# Altium schematic symbol library SchLib1.SchLib: 7 symbols
Pins are listed as number, name and electrical type; pins without a type are passive.

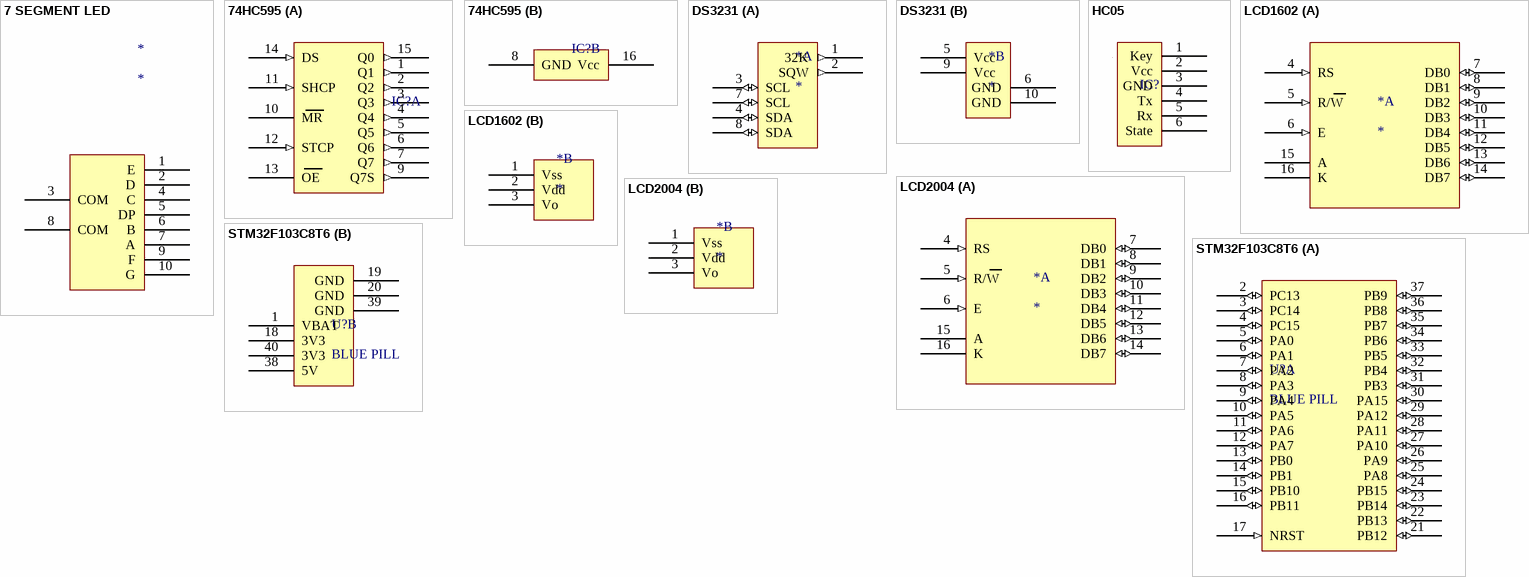
[diagram p0: symbols 7 SEGMENT LED to STM32F103C8T6]

## 7 SEGMENT LED
designator *
common anode
footprint 7 SEGMENT LED (KW1-S201AVA/KW1-S201CVA)
pins: 1 E, 2 D, 3 COM, 4 C, 5 DP, 6 B, 7 A, 8 COM, 9 F, 10 G

## 74HC595
designator IC?  (value not drawn)
Parameter 1: *
footprint 74HC595
part A pins: 1 Q1 (out), 2 Q2 (out), 3 Q3 (out), 4 Q4 (out), 5 Q5 (out), 6 Q6 (out), 7 Q7 (out), 9 Q7S (out), 10 MR, 11 SHCP (in), 12 STCP (in), 13 OE, 14 DS (in), 15 Q0 (out)
part B pins: 8 GND (power), 16 Vcc (power)

## DS3231
designator *
footprint MODULE DS3231( Part B )
footprint Module DS3231( Part A )
part A pins: 1 32K (out), 2 SQW (out), 3 SCL (io), 4 SDA (io), 7 SCL (io), 8 SDA (io)
part B pins: 5 Vcc (power), 6 GND (power), 9 Vcc (power), 10 GND (power)

## HC05
designator IC?  (value not drawn)
footprint Module HC05
pins: 1 Key, 2 Vcc (power), 3 GND (power), 4 Tx, 5 Rx, 6 State

## LCD1602
designator *
footprint LCD1602
part A pins: 4 RS (in), 5 R/W (in), 6 E (in), 7 DB0 (io), 8 DB1 (io), 9 DB2 (io), 10 DB3 (io), 11 DB4 (io), 12 DB5 (io), 13 DB6 (io), 14 DB7 (io), 15 A, 16 K
part B pins: 1 Vss (power), 2 Vdd (power), 3 Vo (power)

## LCD2004
designator *
footprint LCD2004
part A pins: 4 RS (in), 5 R/W (in), 6 E (in), 7 DB0 (io), 8 DB1 (io), 9 DB2 (io), 10 DB3 (io), 11 DB4 (io), 12 DB5 (io), 13 DB6 (io), 14 DB7 (io), 15 A, 16 K
part B pins: 1 Vss (power), 2 Vdd (power), 3 Vo (power)

## STM32F103C8T6
designator U?, comment BLUE PILL
STM32F103C8T6, mbed-Enabled Development Bluepill STM32F1 ARM® Cortex®-M3 MCU 32-Bit Embedded Evaluation Board
footprint STM32F103C8T6 (BLUE PILL)
part A pins: 2 PC13 (io), 3 PC14 (io), 4 PC15 (io), 5 PA0 (io), 6 PA1 (io), 7 PA2 (io), 8 PA3 (io), 9 PA4 (io), 10 PA5 (io), 11 PA6 (io), 12 PA7 (io), 13 PB0 (io), 14 PB1 (io), 15 PB10 (io), 16 PB11 (io), 17 NRST (in), 21 PB12 (io), 22 PB13 (io), 23 PB14 (io), 24 PB15 (io), 25 PA8 (io), 26 PA9 (io), 27 PA10 (io), 28 PA11 (io), 29 PA12 (io), 30 PA15 (io), 31 PB3 (io), 32 PB4 (io), 33 PB5 (io), 34 PB6 (io), 35 PB7 (io), 36 PB8 (io), 37 PB9 (io)
part B pins: 1 VBAT (power), 18 3V3 (power), 19 GND (power), 20 GND (power), 38 5V (power), 39 GND (power), 40 3V3 (power)